# Altium schematic symbol library QUTMS_LEDs.SchLib: 2 symbols
Pins are listed as number, name and electrical type; pins without a type are passive.

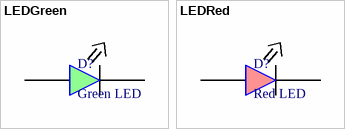
[diagram p0: symbols LEDGreen to LEDRed]

## LEDGreen
designator D?, comment Green LED
footprint LED-0603
pins: 1, 2

## LEDRed
designator D?, comment Red LED
footprint LED-0603
pins: 1, 2